# Altium integrated library ALTIUM-WL-SWTP-rev18a.IntLib: 15 symbols
Pins are listed as number, name and electrical type; pins without a type are passive.

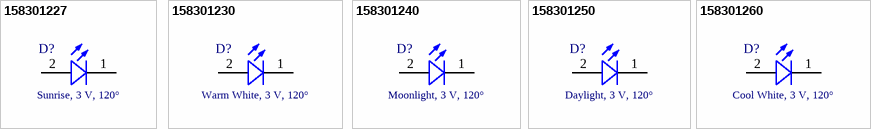
[diagram p0: symbols 158301227 to 158301260]

## 158301227
designator D?, comment Sunrise, 3 V, 120°
WL-SWTP SMD White Top view PLCC, size 3014, Sunrise, 3 V, 120°; Part Number: 158301227; Forward Voltage: 3 V; Color Rendering Index: 85; Luminous Flux: 8 lm; Correlated Color Temperature: 2700 K; ComponentLink1Description: Manufacturer; ComponentLink1URL: http://www.we-online.de; ComponentLink2Description: Datasheet; ComponentLink2URL: http://katalog.we-online.de/led/datasheet/158301227.pdf; Published Date: May 2018; Publisher: Wurth Elektronik; Size: 3014; Viewing Angle: 120°; Operating Temperature: -40 to 85 degC; Emitting Color: Sunrise; Mounting Technology: SMT
footprint WL-SWTP_3014
pins: 1 K, 2 A

## 158301230
designator D?, comment Warm White, 3 V, 120°
WL-SWTP SMD White Top view PLCC, size 3014, Warm White, 3 V, 120°; Part Number: 158301230; Forward Voltage: 3 V; Color Rendering Index: 85; Luminous Flux: 8 lm; Correlated Color Temperature: 3000 K; ComponentLink1Description: Manufacturer; ComponentLink1URL: http://www.we-online.de; ComponentLink2Description: Datasheet; ComponentLink2URL: http://katalog.we-online.de/led/datasheet/158301230.pdf; Published Date: May 2018; Publisher: Wurth Elektronik; Size: 3014; Viewing Angle: 120°; Operating Temperature: -40 to 85 degC; Emitting Color: Warm White; Mounting Technology: SMT
footprint WL-SWTP_3014
pins: 1 K, 2 A

## 158301240
designator D?, comment Moonlight, 3 V, 120°
WL-SWTP SMD White Top view PLCC, size 3014, Moonlight, 3 V, 120°; Part Number: 158301240; Forward Voltage: 3 V; Color Rendering Index: 85; Luminous Flux: 8.5 lm; Correlated Color Temperature: 4000 K; ComponentLink1Description: Manufacturer; ComponentLink1URL: http://www.we-online.de; ComponentLink2Description: Datasheet; ComponentLink2URL: http://katalog.we-online.de/led/datasheet/158301240.pdf; Published Date: May 2018; Publisher: Wurth Elektronik; Size: 3014; Viewing Angle: 120°; Operating Temperature: -40 to 85 degC; Emitting Color: Moonlight; Mounting Technology: SMT
footprint WL-SWTP_3014
pins: 1 K, 2 A

## 158301250
designator D?, comment Daylight, 3 V, 120°
WL-SWTP SMD White Top view PLCC, size 3014, Daylight, 3 V, 120°; Part Number: 158301250; Forward Voltage: 3 V; Color Rendering Index: 85; Luminous Flux: 9 lm; Correlated Color Temperature: 5000 K; ComponentLink1Description: Manufacturer; ComponentLink1URL: http://www.we-online.de; ComponentLink2Description: Datasheet; ComponentLink2URL: http://katalog.we-online.de/led/datasheet/158301250.pdf; Published Date: May 2018; Publisher: Wurth Elektronik; Size: 3014; Viewing Angle: 120°; Operating Temperature: -40 to 85 degC; Emitting Color: Daylight; Mounting Technology: SMT
footprint WL-SWTP_3014
pins: 1 K, 2 A

## 158301260
designator D?, comment Cool White, 3 V, 120°
WL-SWTP SMD White Top view PLCC, size 3014, Cool White, 3 V, 120°; Part Number: 158301260; Forward Voltage: 3 V; Color Rendering Index: 90; Luminous Flux: 9 lm; Correlated Color Temperature: 6000 K; ComponentLink1Description: Manufacturer; ComponentLink1URL: http://www.we-online.de; ComponentLink2Description: Datasheet; ComponentLink2URL: http://katalog.we-online.de/led/datasheet/158301260.pdf; Published Date: May 2018; Publisher: Wurth Elektronik; Size: 3014; Viewing Angle: 120°; Operating Temperature: -40 to 85 degC; Emitting Color: Cool White; Mounting Technology: SMT
footprint WL-SWTP_3014
pins: 1 K, 2 A


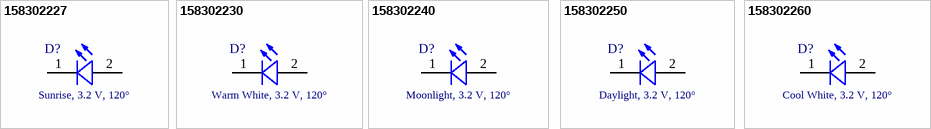
[diagram p1: symbols 158302227 to 158302260]

## 158302227
designator D?, comment Sunrise, 3.2 V, 120°
WL-SWTP SMD White Top view PLCC, size 3022, Sunrise, 3.2 V, 120°; Part Number: 158302227; Forward Voltage: 3.2 V; Color Rendering Index: 85; Luminous Flux: 20 lm; Correlated Color Temperature: 2700 K; ComponentLink1Description: Manufacturer; ComponentLink1URL: http://www.we-online.de; ComponentLink2Description: Datasheet; ComponentLink2URL: http://katalog.we-online.de/led/datasheet/158302227.pdf; Published Date: May 2018; Publisher: Wurth Elektronik; Size: 3022; Viewing Angle: 120°; Operating Temperature: -40 to 85 degC; Emitting Color: Sunrise; Mounting Technology: SMT
footprint WL-SWTP_3022
pins: 1 K, 2 A

## 158302230
designator D?, comment Warm White, 3.2 V, 120°
WL-SWTP SMD White Top view PLCC, size 3022, Warm White, 3.2 V, 120°; Part Number: 158302230; Forward Voltage: 3.2 V; Color Rendering Index: 85; Luminous Flux: 20 lm; Correlated Color Temperature: 3000 K; ComponentLink1Description: Manufacturer; ComponentLink1URL: http://www.we-online.de; ComponentLink2Description: Datasheet; ComponentLink2URL: http://katalog.we-online.de/led/datasheet/158302230.pdf; Published Date: May 2018; Publisher: Wurth Elektronik; Size: 3022; Viewing Angle: 120°; Operating Temperature: -40 to 85 degC; Emitting Color: Warm White; Mounting Technology: SMT
footprint WL-SWTP_3022
pins: 1 K, 2 A

## 158302240
designator D?, comment Moonlight, 3.2 V, 120°
WL-SWTP SMD White Top view PLCC, size 3022, Moonlight, 3.2 V, 120°; Part Number: 158302240; Forward Voltage: 3.2 V; Color Rendering Index: 85; Luminous Flux: 22 lm; Correlated Color Temperature: 4000 K; ComponentLink1Description: Manufacturer; ComponentLink1URL: http://www.we-online.de; ComponentLink2Description: Datasheet; ComponentLink2URL: http://katalog.we-online.de/led/datasheet/158302240.pdf; Published Date: May 2018; Publisher: Wurth Elektronik; Size: 3022; Viewing Angle: 120°; Operating Temperature: -40 to 85 degC; Emitting Color: Moonlight; Mounting Technology: SMT
footprint WL-SWTP_3022
pins: 1 K, 2 A

## 158302250
designator D?, comment Daylight, 3.2 V, 120°
WL-SWTP SMD White Top view PLCC, size 3022, Daylight, 3.2 V, 120°; Part Number: 158302250; Forward Voltage: 3.2 V; Color Rendering Index: 85; Luminous Flux: 22 lm; Correlated Color Temperature: 5000 K; ComponentLink1Description: Manufacturer; ComponentLink1URL: http://www.we-online.de; ComponentLink2Description: Datasheet; ComponentLink2URL: http://katalog.we-online.de/led/datasheet/158302250.pdf; Published Date: May 2018; Publisher: Wurth Elektronik; Size: 3022; Viewing Angle: 120°; Operating Temperature: -40 to 85 degC; Emitting Color: Daylight; Mounting Technology: SMT
footprint WL-SWTP_3022
pins: 1 K, 2 A

## 158302260
designator D?, comment Cool White, 3.2 V, 120°
WL-SWTP SMD White Top view PLCC, size 3022, Cool White, 3.2 V, 120°; Part Number: 158302260; Forward Voltage: 3.2 V; Color Rendering Index: 90; Luminous Flux: 22 lm; Correlated Color Temperature: 6000 K; ComponentLink1Description: Manufacturer; ComponentLink1URL: http://www.we-online.de; ComponentLink2Description: Datasheet; ComponentLink2URL: http://katalog.we-online.de/led/datasheet/158302260.pdf; Published Date: May 2018; Publisher: Wurth Elektronik; Size: 3022; Viewing Angle: 120°; Operating Temperature: -40 to 85 degC; Emitting Color: Cool White; Mounting Technology: SMT
footprint WL-SWTP_3022
pins: 1 K, 2 A


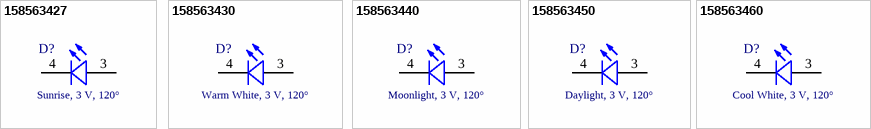
[diagram p2: symbols 158563427 to 158563460]

## 158563427
designator D?, comment Sunrise, 3 V, 120°
WL-SWTP SMD White Top view PLCC, size 5630, Sunrise, 3 V, 120°; Part Number: 158563427; Forward Voltage: 3 V; Color Rendering Index: 85; Luminous Flux: 34 lm; Correlated Color Temperature: 2700 K; ComponentLink1Description: Manufacturer; ComponentLink1URL: http://www.we-online.de; ComponentLink2Description: Datasheet; ComponentLink2URL: http://katalog.we-online.de/led/datasheet/158563427.pdf; Published Date: May 2018; Publisher: Wurth Elektronik; Size: 5630; Viewing Angle: 120°; Operating Temperature: -40 to 85 degC; Emitting Color: Sunrise; Mounting Technology: SMT
footprint WL-SWTP_5630
pins: 3 A, 4 K

## 158563430
designator D?, comment Warm White, 3 V, 120°
WL-SWTP SMD White Top view PLCC, size 5630, Warm White, 3 V, 120°; Part Number: 158563430; Forward Voltage: 3 V; Color Rendering Index: 85; Luminous Flux: 34 lm; Correlated Color Temperature: 3000 K; ComponentLink1Description: Manufacturer; ComponentLink1URL: http://www.we-online.de; ComponentLink2Description: Datasheet; ComponentLink2URL: http://katalog.we-online.de/led/datasheet/158563430.pdf; Published Date: May 2018; Publisher: Wurth Elektronik; Size: 5630; Viewing Angle: 120°; Operating Temperature: -40 to 85 degC; Emitting Color: Warm White; Mounting Technology: SMT
footprint WL-SWTP_5630
pins: 3 A, 4 K

## 158563440
designator D?, comment Moonlight, 3 V, 120°
WL-SWTP SMD White Top view PLCC, size 5630, Moonlight, 3 V, 120°; Part Number: 158563440; Forward Voltage: 3 V; Color Rendering Index: 85; Luminous Flux: 36 lm; Correlated Color Temperature: 4000 K; ComponentLink1Description: Manufacturer; ComponentLink1URL: http://www.we-online.de; ComponentLink2Description: Datasheet; ComponentLink2URL: http://katalog.we-online.de/led/datasheet/158563440.pdf; Published Date: May 2018; Publisher: Wurth Elektronik; Size: 5630; Viewing Angle: 120°; Operating Temperature: -40 to 85 degC; Emitting Color: Moonlight; Mounting Technology: SMT
footprint WL-SWTP_5630
pins: 3 A, 4 K

## 158563450
designator D?, comment Daylight, 3 V, 120°
WL-SWTP SMD White Top view PLCC, size 5630, Daylight, 3 V, 120°; Part Number: 158563450; Forward Voltage: 3 V; Color Rendering Index: 85; Luminous Flux: 39 lm; Correlated Color Temperature: 5000 K; ComponentLink1Description: Manufacturer; ComponentLink1URL: http://www.we-online.de; ComponentLink2Description: Datasheet; ComponentLink2URL: http://katalog.we-online.de/led/datasheet/158563450.pdf; Published Date: May 2018; Publisher: Wurth Elektronik; Size: 5630; Viewing Angle: 120°; Operating Temperature: -40 to 85 degC; Emitting Color: Daylight; Mounting Technology: SMT
footprint WL-SWTP_5630
pins: 3 A, 4 K

## 158563460
designator D?, comment Cool White, 3 V, 120°
WL-SWTP SMD White Top view PLCC, size 5630, Cool White, 3 V, 120°; Part Number: 158563460; Forward Voltage: 3 V; Color Rendering Index: 90; Luminous Flux: 39 lm; Correlated Color Temperature: 6000 K; ComponentLink1Description: Manufacturer; ComponentLink1URL: http://www.we-online.de; ComponentLink2Description: Datasheet; ComponentLink2URL: http://katalog.we-online.de/led/datasheet/158563460.pdf; Published Date: May 2018; Publisher: Wurth Elektronik; Size: 5630; Viewing Angle: 120°; Operating Temperature: -40 to 85 degC; Emitting Color: Cool White; Mounting Technology: SMT
footprint WL-SWTP_5630
pins: 3 A, 4 K